# EAGLE library part MC9S08LC36LK (library freescale-semi)
HCS08 Microcontroller
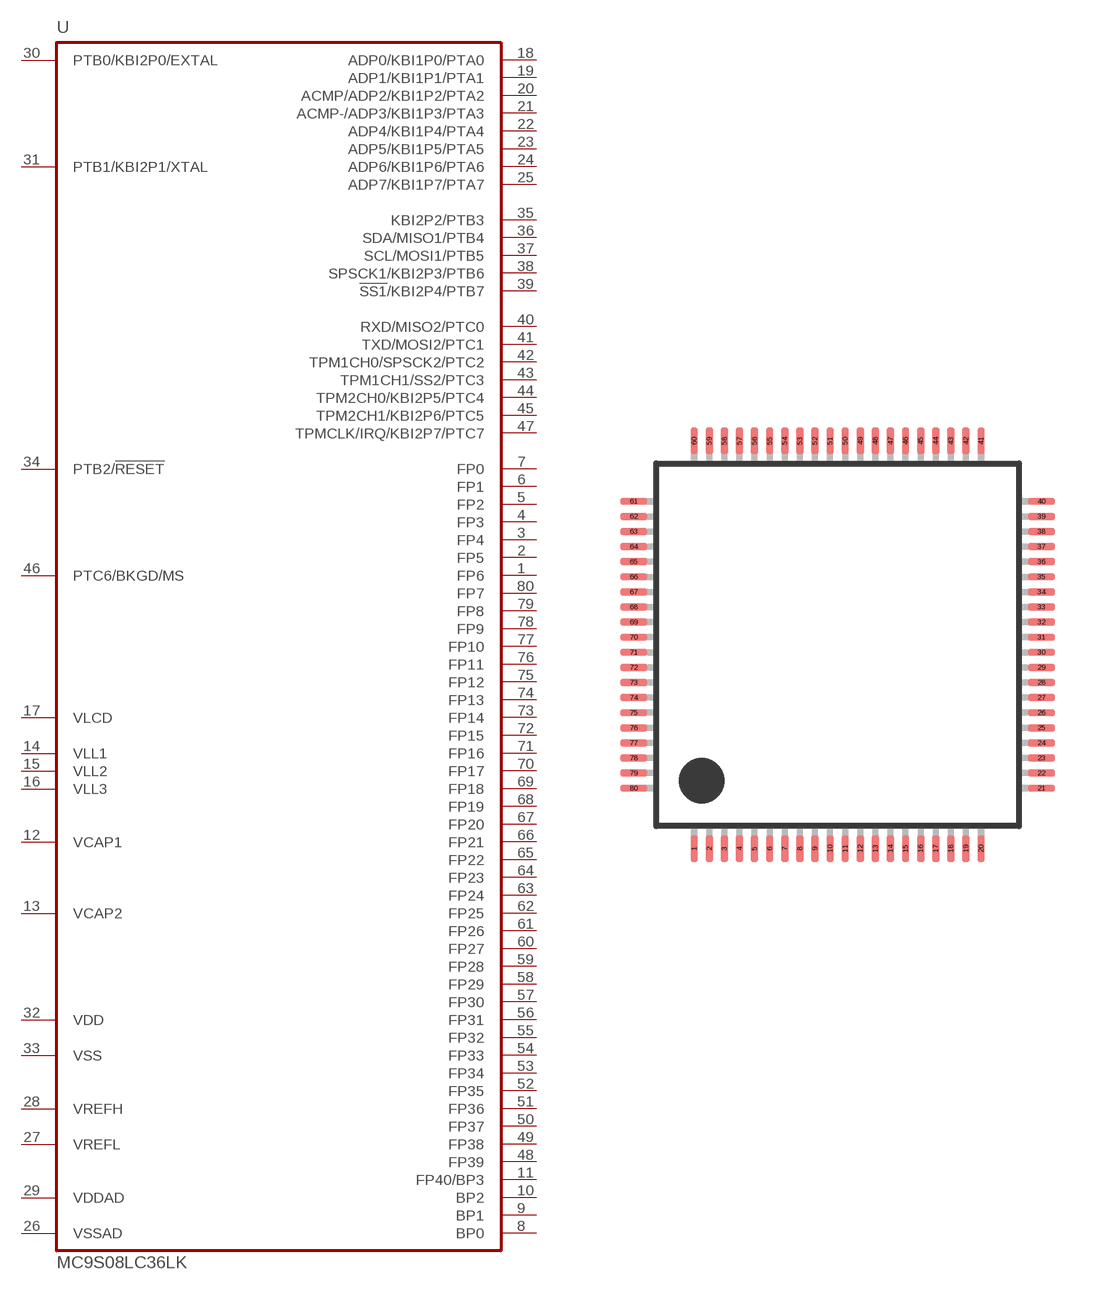
[diagram p3: symbol with the pads of FQFP80; footprint FQFP80]

Designator prefix U

## MC9S08LC36LK  [FQFP80]
1  FP6
2  FP5
3  FP4
4  FP3
5  FP2
6  FP1
7  FP0
8  BP0
9  BP1
10  BP2
11  FP40/BP3
12  VCAP1  pas
13  VCAP2  pas
14  VLL1  pas
15  VLL2  pas
16  VLL3  pas
17  VLCD  pas
18  ADP0/KBI1P0/PTA0
19  ADP1/KBI1P1/PTA1
20  ACMP/ADP2/KBI1P2/PTA2
21  ACMP-/ADP3/KBI1P3/PTA3
22  ADP4/KBI1P4/PTA4
23  ADP5/KBI1P5/PTA5
24  ADP6/KBI1P6/PTA6
25  ADP7/KBI1P7/PTA7
26  VSSAD  pwr
27  VREFL  pwr
28  VREFH  pwr
29  VDDAD  pwr
30  PTB0/KBI2P0/EXTAL
31  PTB1/KBI2P1/XTAL
32  VDD  pwr
33  VSS  pwr
34  PTB2/!RESET!
35  KBI2P2/PTB3
36  SDA/MISO1/PTB4
37  SCL/MOSI1/PTB5
38  SPSCK1/KBI2P3/PTB6
39  !SS1!/KBI2P4/PTB7
40  RXD/MISO2/PTC0
41  TXD/MOSI2/PTC1
42  TPM1CH0/SPSCK2/PTC2
43  TPM1CH1/SS2/PTC3
44  TPM2CH0/KBI2P5/PTC4
45  TPM2CH1/KBI2P6/PTC5
46  PTC6/BKGD/MS
47  TPMCLK/IRQ/KBI2P7/PTC7
48  FP39
49  FP38
50  FP37
51  FP36
52  FP35
53  FP34
54  FP33
55  FP32
56  FP31
57  FP30
58  FP29
59  FP28
60  FP27
61  FP26
62  FP25
63  FP24
64  FP23
65  FP22
66  FP21
67  FP20
68  FP19
69  FP18
70  FP17
71  FP16
72  FP15
73  FP14
74  FP13
75  FP12
76  FP11
77  FP10
78  FP9
79  FP8
80  FP7

## Footprint FQFP80 (pad centres in mm)
FQFP 80 12 x 12 mm body
smd 0.25 x 0.9: 1 -4.75,-6.75; 2 -4.25,-6.75; 3 -3.75,-6.75; 4 -3.25,-6.75; 5 -2.75,-6.75; 6 -2.25,-6.75; 7 -1.75,-6.75; 8 -1.25,-6.75; 9 -0.75,-6.75; 10 -0.25,-6.75; 11 0.25,-6.75; 12 0.75,-6.75; 13 1.25,-6.75; 14 1.75,-6.75; 15 2.25,-6.75; 16 2.75,-6.75; 17 3.25,-6.75; 18 3.75,-6.75; 19 4.25,-6.75; 20 4.75,-6.75; 41 4.75,6.75; 42 4.25,6.75; 43 3.75,6.75; 44 3.25,6.75; 45 2.75,6.75; 46 2.25,6.75; 47 1.75,6.75; 48 1.25,6.75; 49 0.75,6.75; 50 0.25,6.75; 51 -0.25,6.75; 52 -0.75,6.75; 53 -1.25,6.75; 54 -1.75,6.75; 55 -2.25,6.75; 56 -2.75,6.75; 57 -3.25,6.75; 58 -3.75,6.75; 59 -4.25,6.75; 60 -4.75,6.75
smd 0.9 x 0.25: 21 6.75,-4.75; 22 6.75,-4.25; 23 6.75,-3.75; 24 6.75,-3.25; 25 6.75,-2.75; 26 6.75,-2.25; 27 6.75,-1.75; 28 6.75,-1.25; 29 6.75,-0.75; 30 6.75,-0.25; 31 6.75,0.25; 32 6.75,0.75; 33 6.75,1.25; 34 6.75,1.75; 35 6.75,2.25; 36 6.75,2.75; 37 6.75,3.25; 38 6.75,3.75; 39 6.75,4.25; 40 6.75,4.75; 61 -6.75,4.75; 62 -6.75,4.25; 63 -6.75,3.75; 64 -6.75,3.25; 65 -6.75,2.75; 66 -6.75,2.25; 67 -6.75,1.75; 68 -6.75,1.25; 69 -6.75,0.75; 70 -6.75,0.25; 71 -6.75,-0.25; 72 -6.75,-0.75; 73 -6.75,-1.25; 74 -6.75,-1.75; 75 -6.75,-2.25; 76 -6.75,-2.75; 77 -6.75,-3.25; 78 -6.75,-3.75; 79 -6.75,-4.25; 80 -6.75,-4.75